# Altium footprint library General_Inductor.PcbLib: 1 footprints
Each footprint in its own frame and in the unit in brackets; x right, y up, seen from the top. Pads: shape width x height; smd on the part's side, far side on the other; paste and mask are expansions set on the pad; w line width, h text height; cw(c..) or ccw(c..) is an arc to the next point about the centre after c.
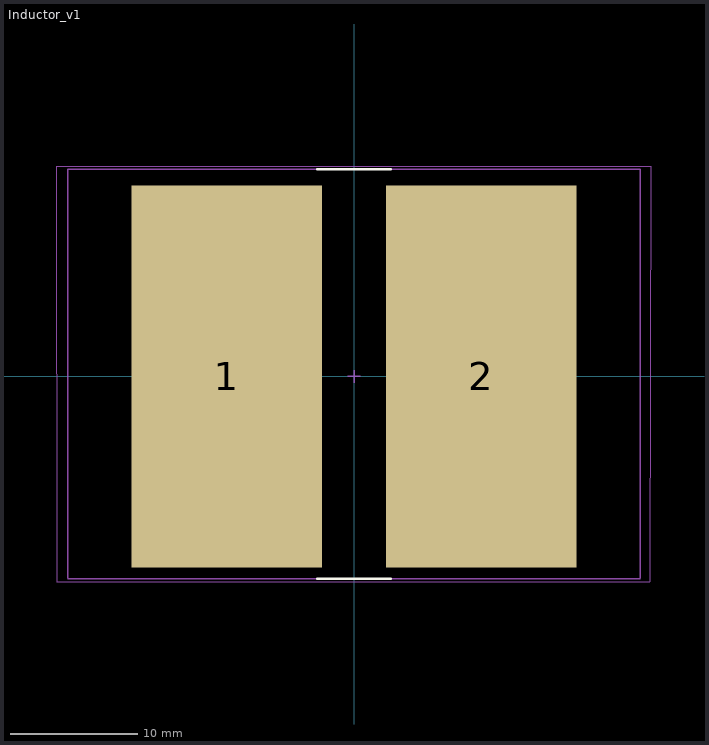
[diagram p0: the footprint, top view; thin cyan lines are the x and y axes]

## Inductor_v1 [mm]
height 22
pads (2):
  rect 15x30 smd: 1(-10,0) 2(10,0)
Top Overlay:
  lines w0.2: -2.9,-15.896 2.9,-15.896 ; -2.9,16.277 2.9,16.277
Mechanical 13:
  lines w0.1: -22.5,-15.896 -11.25,-15.896 11.25,-15.896 22.5,-15.896 ; -22.5,-15.875 -22.5,16.277 22.5,16.277 22.5,-15.875
Mechanical 15:
  lines w0.05: -23.375,-16.146 23.241,-16.146 ; -23.375,-16.129 -23.375,16.51 ; -23.375,16.527 23.375,16.527 ; 23.268,-16.129 23.368,16.51
  lines w0.1: -0.5,0 0.5,0 ; 0,-0.5 0,0.5
3D body: height 22, standoff 0, extent -22.5,-15.621 22.5,16.256